# Altium footprint library Extracomp2.PcbLib: 1 footprints
Each footprint in its own frame and in the unit in brackets; x right, y up, seen from the top. Pads: shape width x height; smd on the part's side, far side on the other; paste and mask are expansions set on the pad; w line width, h text height; cw(c..) or ccw(c..) is an arc to the next point about the centre after c.
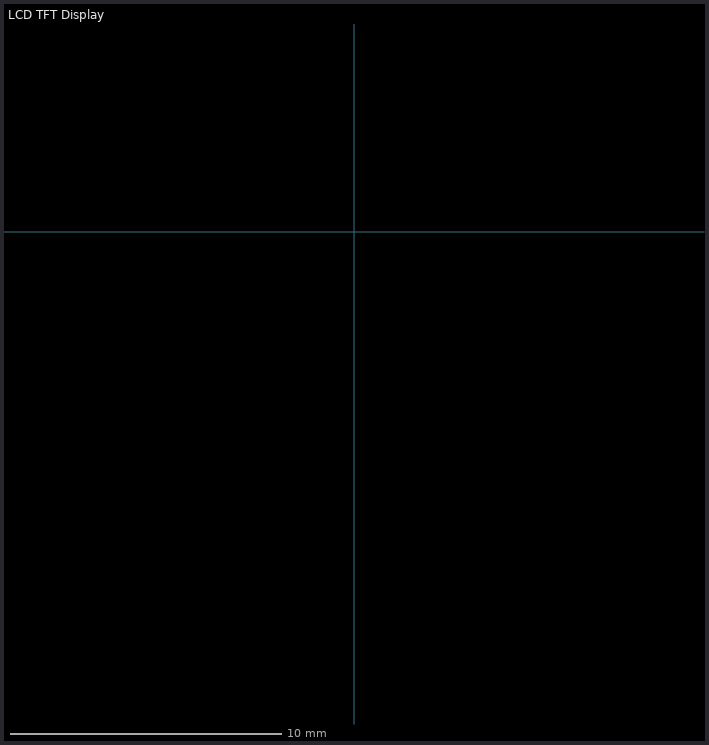
[diagram p0: the footprint, top view; thin cyan lines are the x and y axes]

## LCD TFT Display [mm]
pads (40):
  rrect50% 4x0.2 on Top Solder: 1(0,4.5) 2(0,4) 3(0,3.5) 4(0,3) 5(0,2.5) 6(0,2) 7(0,1.5) 8(0,1) 9(0,0.5) 10(0,0) 11(0,-0.5) 12(0,-1) 13(0,-1.5) 14(0,-2) 15(0,-2.5) 16(0,-3) 17(0,-3.5) 18(0,-4) 19(0,-4.5) 20(0,-5) 21(0,-5.5) 22(0,-6) 23(0,-6.5) 24(0,-7) 25(0,-7.5) 26(0,-8) 27(0,-8.5) 28(0,-9) 29(0,-9.5) 30(0,-10) 31(0,-10.5) 32(0,-11) 33(0,-11.5) 34(0,-12) 35(0,-12.5) 36(0,-13) 37(0,-13.5) 38(0,-14) 39(0,-14.5) 40(0,-15)